# EAGLE library part STM8L151G6U6TR (library stm8)
32KB 1.8V~3.6V STM8 16MHz 26 UFQFPN-28(4x4) Microcontrollers (MCU/MPU/SOC) ROHS
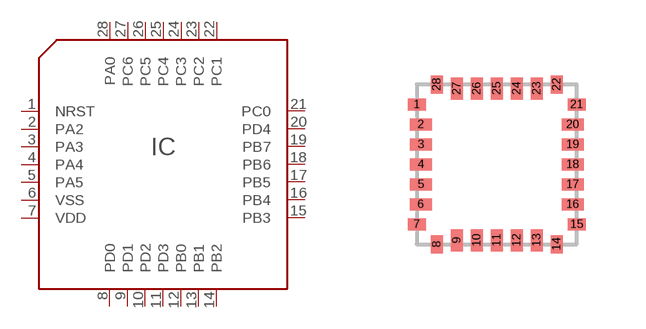
[diagram p3: symbol with the pads of UFQFPN28; footprint UFQFPN28]

Designator prefix IC

## STM8L151G6U6TR (MANF: STMicroelectronics; MANF#: STM8L151G6U6TR)  [UFQFPN28]
1  NRST
2  PA2
3  PA3
4  PA4
5  PA5
6  VSS
7  VDD
8  PD0
9  PD1
10  PD2
11  PD3
12  PB0
13  PB1
14  PB2
15  PB3
16  PB4
17  PB5
18  PB6
19  PB7
20  PD4
21  PC0
22  PC1
23  PC2
24  PC3
25  PC4
26  PC5
27  PC6
28  PA0

## Footprint UFQFPN28 (pad centres in mm)
smd 0.45 x 0.3: 1 -2,1.5; 7 -2,-1.5; 15 2,-1.5; 21 2,1.5
smd 0.55 x 0.3: 2 -1.9,1; 3 -1.9,0.5; 4 -1.9,0; 5 -1.9,-0.5; 6 -1.9,-1; 16 1.9,-1; 17 1.9,-0.5; 18 1.9,0; 19 1.9,0.5; 20 1.9,1
smd 0.3 x 0.45: 8 -1.5,-2; 14 1.5,-2; 22 1.5,2; 28 -1.5,2
smd 0.3 x 0.55: 9 -1,-1.9; 10 -0.5,-1.9; 11 0,-1.9; 12 0.5,-1.9; 13 1,-1.9; 23 1,1.9; 24 0.5,1.9; 25 0,1.9; 26 -0.5,1.9; 27 -1,1.9